# Altium schematic symbol library 数电.SchLib: 5 symbols
Pins are listed as number, name and electrical type; pins without a type are passive.

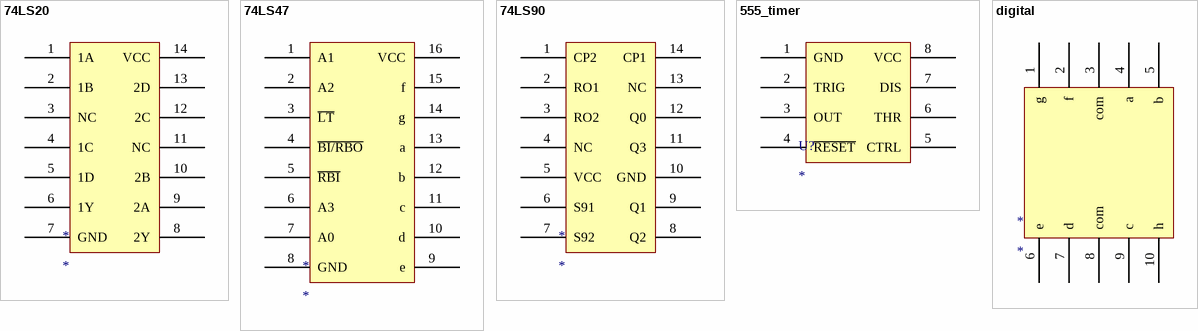
[diagram p0: symbols 74LS20 to digital]

## 74LS20
designator *
pins: 1 1A, 2 1B, 3 NC, 4 1C, 5 1D, 6 1Y, 7 GND, 8 2Y, 9 2A, 10 2B, 11 NC, 12 2C, 13 2D, 14 VCC

## 74LS47
designator *
pins: 1 A1, 2 A2, 3 ~{LT}, 4 ~{BI/RBO}, 5 ~{RBI}, 6 A3, 7 A0, 8 GND, 9 e, 10 d, 11 c, 12 b, 13 a, 14 g, 15 f, 16 VCC

## 74LS90
designator *
pins: 1 CP2, 2 RO1, 3 RO2, 4 NC, 5 VCC, 6 S91, 7 S92, 8 Q2, 9 Q1, 10 GND, 11 Q3, 12 Q0, 13 NC, 14 CP1

## 555_timer
designator U?
pins: 1 GND, 2 TRIG, 3 OUT, 4 ~{RESET}, 5 CTRL, 6 THR, 7 DIS, 8 VCC

## digital
designator *
pins: 1 g, 2 f, 3 com, 4 a, 5 b, 6 e, 7 d, 8 com, 9 c, 10 h